# Altium integrated library Altium Database Library V2.IntLib: 376 symbols (part 4 of 17)

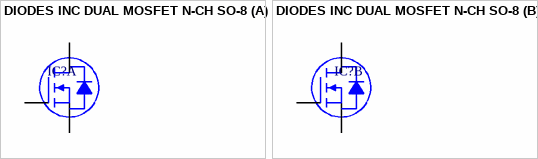
[diagram p69: symbol DIODES INC DUAL MOSFET N-CH SO-8]

## DIODES INC DUAL MOSFET N-CH SO-8
designator IC?
part A pins: 1 S1, 2 G1, 7 D1, 8 D1
part B pins: 3 S2, 4 G2, 5 D2, 6 D2


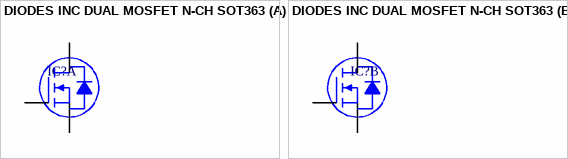
[diagram p70: symbol DIODES INC DUAL MOSFET N-CH SOT363]

## DIODES INC DUAL MOSFET N-CH SOT363
designator IC?
part A pins: 3 D1, 4 S1, 5 G1
part B pins: 1 S2, 2 G2, 6 D2


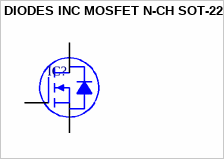
[diagram p71: symbol DIODES INC MOSFET N-CH SOT-223]

## DIODES INC MOSFET N-CH SOT-223
designator IC?
pins: 1 G, 2 D, 3 S, 4 D


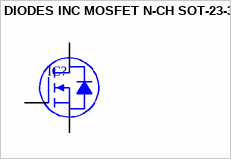
[diagram p72: symbol DIODES INC MOSFET N-CH SOT-23-3]

## DIODES INC MOSFET N-CH SOT-23-3
designator IC?
pins: 1 G, 2 D, 3 S


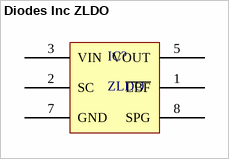
[diagram p73: symbol Diodes Inc ZLDO]

## Diodes Inc ZLDO
designator IC?, comment ZLDO
Diodes Inc 5.0 VOLT ULTRA LOW DROPOUT  REGULATOR
pins: 1 ~{LBF} "Low Battery Flag", 2 SC "Shutdown Control", 3 VIN, 5 VOUT "1uF or greater", 7 GND, 8 SPG "Shaping - 10pF to Vout"


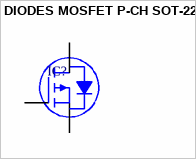
[diagram p74: symbol DIODES MOSFET P-CH SOT-223]

## DIODES MOSFET P-CH SOT-223
designator IC?
pins: 1 G, 2 D, 3 S, 4 D


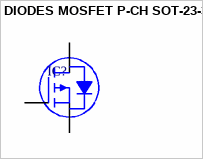
[diagram p75: symbol DIODES MOSFET P-CH SOT-23-3]

## DIODES MOSFET P-CH SOT-23-3
designator IC?
pins: 1 G, 2 D, 3 S


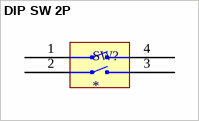
[diagram p76: symbol DIP SW 2P]

## DIP SW 2P
designator SW?
pins: 1 GND, 2 GND, 3 GND, 4 GND


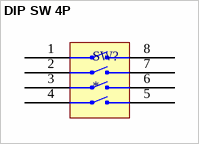
[diagram p77: symbol DIP SW 4P]

## DIP SW 4P
designator SW?
pins: 1 GND, 2 GND, 3 GND, 4 GND, 5, 6, 7, 8


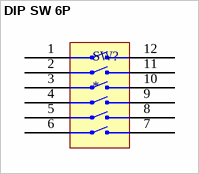
[diagram p78: symbol DIP SW 6P]

## DIP SW 6P
designator SW?
pins: 1 GND, 2 GND, 3 GND, 4 GND, 5, 6, 7, 8, 9, 10, 11, 12


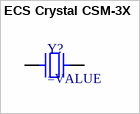
[diagram p79: symbol ECS Crystal CSM-3X]

## ECS Crystal CSM-3X
designator Y?
SMT Crystal
pins: 1, 2


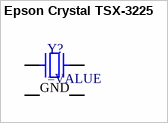
[diagram p80: symbol Epson Crystal TSX-3225]

## Epson Crystal TSX-3225
designator Y?
SMT Crystal
pins: 1, 2 GND, 3, 4 GND


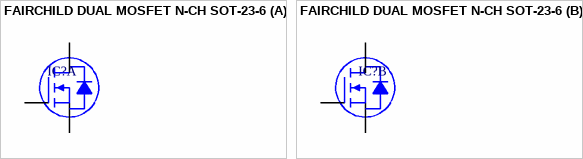
[diagram p81: symbol FAIRCHILD DUAL MOSFET N-CH SOT-23-6]

## FAIRCHILD DUAL MOSFET N-CH SOT-23-6
designator IC?
part A pins: 1 G1, 5 S1, 6 D1
part B pins: 2 S2, 3 G2, 4 D2


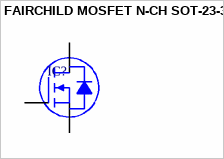
[diagram p82: symbol FAIRCHILD MOSFET N-CH SOT-23-3]

## FAIRCHILD MOSFET N-CH SOT-23-3
designator IC?
pins: 1 G, 2 D, 3 S


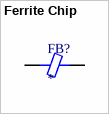
[diagram p83: symbol Ferrite Chip]

## Ferrite Chip
designator FB?
SMT Ferrite Chip
pins: 1, 2


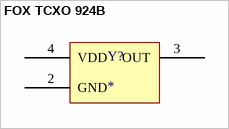
[diagram p84: symbol FOX TCXO 924B]

## FOX TCXO 924B
designator Y?
SMD TCXO
pins: 2 GND, 3 OUT, 4 VDD


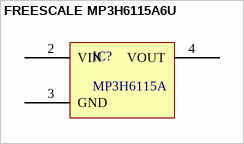
[diagram p85: symbol FREESCALE MP3H6115A6U]

## FREESCALE MP3H6115A6U
designator IC?, comment MP3H6115A
High Temperature Accuracy  Integrated Silicon Pressure Sensor  for Measuring Absolute Pressure,  On-Chip Signal Conditioned,  Temperature Compensated and  Calibrated
pins: 2 VIN, 3 GND, 4 VOUT


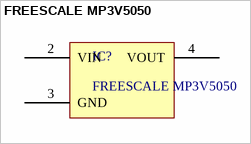
[diagram p86: symbol FREESCALE MP3V5050]

## FREESCALE MP3V5050
designator IC?
0 to 50 kPa, Differential,  and Gauge Pressure Sensor
pins: 2 VIN, 3 GND, 4 VOUT


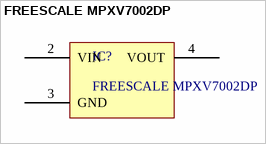
[diagram p87: symbol FREESCALE MPXV7002DP]

## FREESCALE MPXV7002DP
designator IC?
High Temperature Accuracy  Integrated Silicon Pressure Sensor  for Measuring Absolute Pressure,  On-Chip Signal Conditioned,  Temperature Compensated and  Calibrated
pins: 2 VIN, 3 GND, 4 VOUT


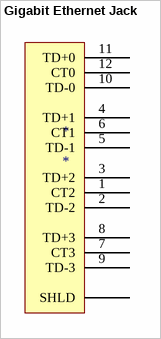
[diagram p88: symbol Gigabit Ethernet Jack]

## Gigabit Ethernet Jack
designator *
pins: 1 CT2, 2 TD-2, 3 TD+2, 4 TD+1, 5 TD-1, 6 CT1, 7 CT3, 8 TD+3, 9 TD-3, 10 TD-0, 11 TD+0, 12 CT0, S SHLD


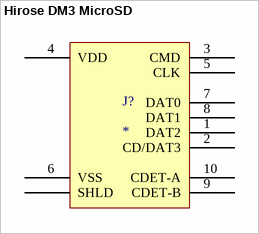
[diagram p89: symbol Hirose DM3 MicroSD]

## Hirose DM3 MicroSD
designator J?
pins: 1 DAT2, 2 CD/DAT3, 3 CMD, 4 VDD, 5 CLK, 6 VSS, 7 DAT0, 8 DAT1, 9 CDET-B, 10 CDET-A, S SHLD


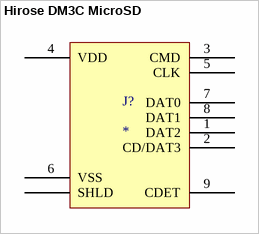
[diagram p90: symbol Hirose DM3C MicroSD]

## Hirose DM3C MicroSD
designator J?
pins: 1 DAT2, 2 CD/DAT3, 3 CMD, 4 VDD, 5 CLK, 6 VSS, 7 DAT0, 8 DAT1, 9 CDET, S SHLD


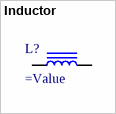
[diagram p91: symbol Inductor]

## Inductor
designator L?
SMT Inductor
pins: 1, 2
